# Altium footprint library Resistor.PcbLib: 34 footprints (part 2 of 3)
Each footprint in its own frame and in the unit in brackets; x right, y up, seen from the top. Pads: shape width x height; smd on the part's side, far side on the other; paste and mask are expansions set on the pad; w line width, h text height; cw(c..) or ccw(c..) is an arc to the next point about the centre after c.
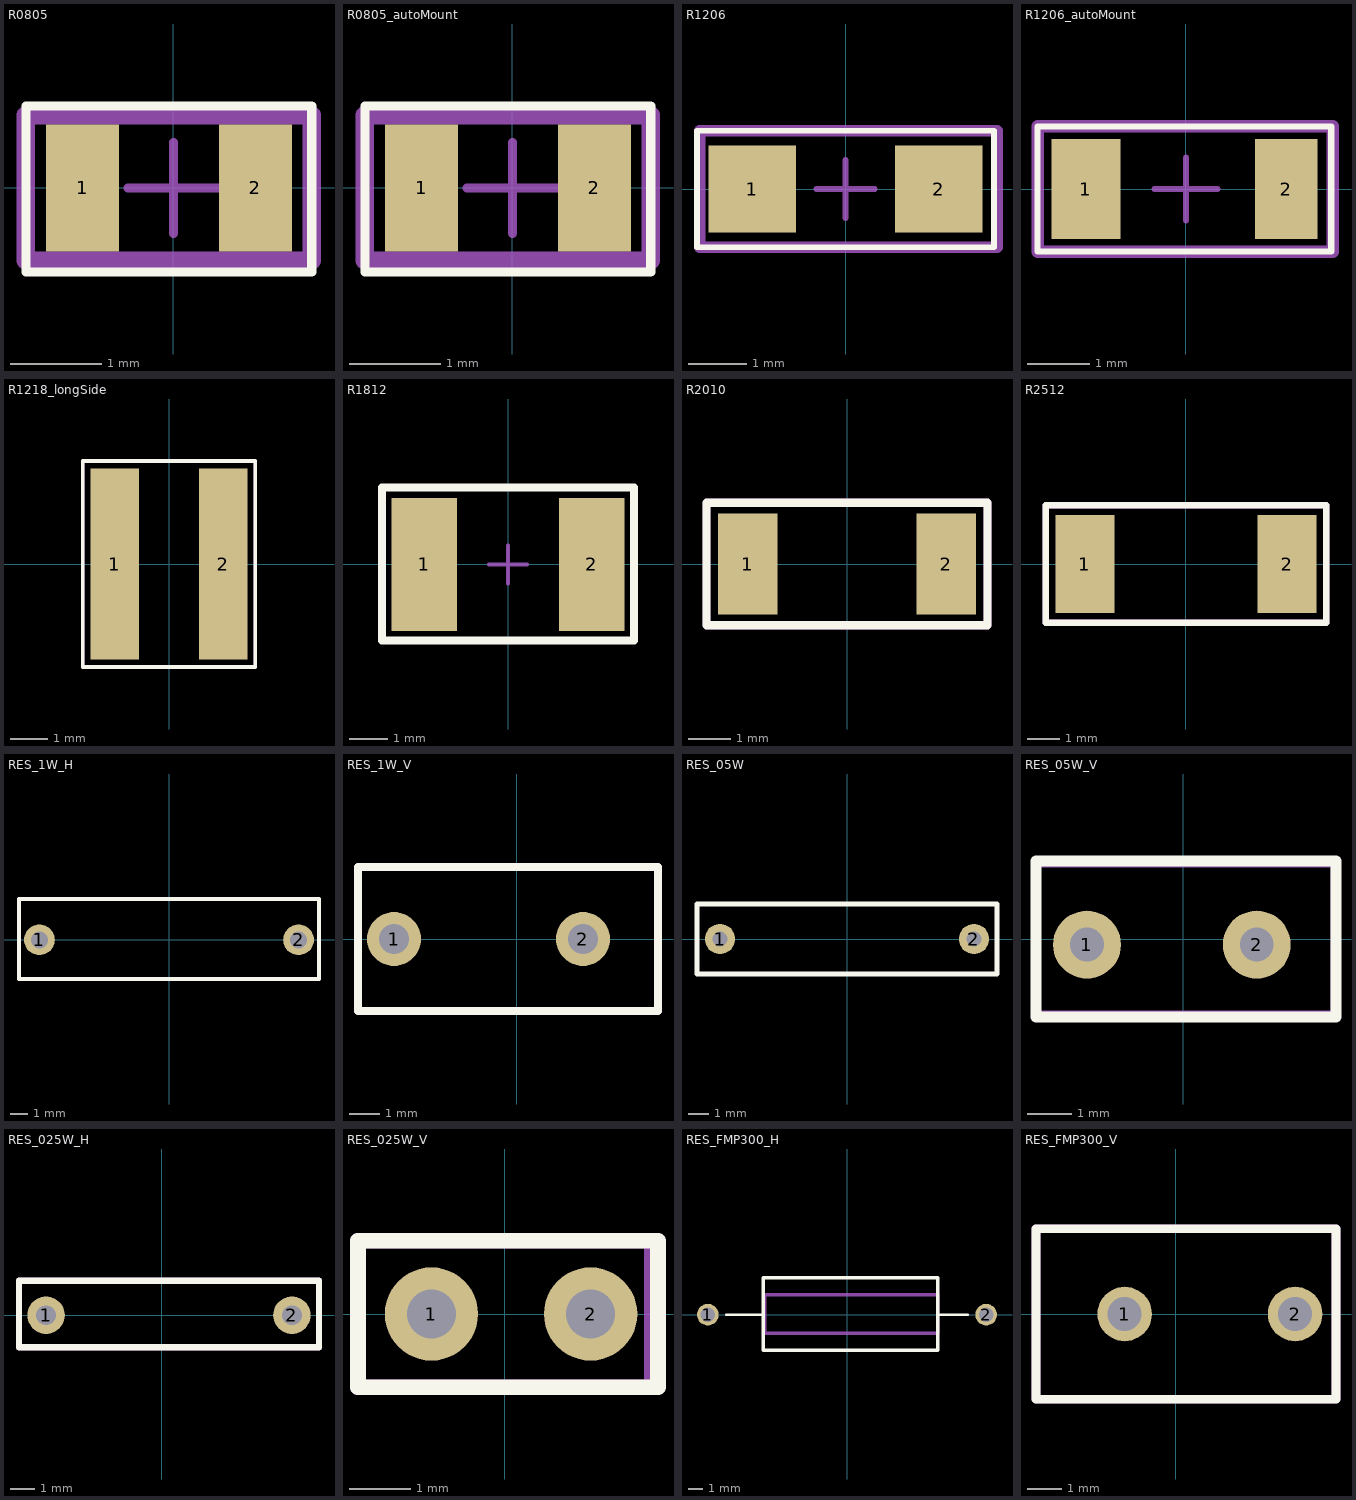
[diagram p1: the footprints below, top view; thin cyan lines are the x and y axes]

## R0805 [mm]
pads (2):
  rect 0.8x1.4 smd: 1(-1,0) 2(0.905,0)
Top Overlay:
  lines w0.1: -1.625,-0.925 1.525,-0.925 1.525,0.9 -1.625,0.9 -1.625,-0.925
ASSEMBLY_TOP:
  lines w0.2: -1.625,-0.8 -1.625,0.8 1.525,0.8 1.525,-0.8 -1.625,-0.8
  text ".Designator" at -1.5,-0.5 h1.52
Mechanical 15:
  lines w0.1: -0.5,0 0.5,0 ; 0,-0.5 0,0.5
3D body: height 0.76, standoff 0, extent -1.21,-0.675 1.09,0.675

## R0805_autoMount [mm]
pads (2):
  rect 0.8x1.4 smd: 1(-1,0) 2(0.905,0)
Top Overlay:
  lines w0.1: -1.625,-0.925 1.525,-0.925 1.525,0.9 -1.625,0.9 -1.625,-0.925
ASSEMBLY_TOP:
  lines w0.2: -1.625,-0.8 -1.625,0.8 1.525,0.8 1.525,-0.8 -1.625,-0.8
  text ".Designator" at -1.5,-0.5 h1.52
Mechanical 15:
  lines w0.1: -0.5,0 0.5,0 ; 0,-0.5 0,0.5
3D body: height 0.76, standoff 0, extent -1.21,-0.675 1.09,0.675

## R1206 [mm]
pads (2):
  rect 1.5x1.5 smd: 1(-1.6,0) 2(1.6,0)
Top Overlay:
  lines w0.1: -2.55,-1 2.55,-1 2.55,1 -2.55,1 -2.55,-1
ASSEMBLY_TOP:
  lines w0.2: -2.5,-1 2.6,-1 2.6,1 -2.5,1 -2.5,-1
  text ".Designator" at -2.1,-0.6 h1.52
Mechanical 15:
  lines w0.1: -0.5,0 0.5,0 ; 0,-0.5 0,0.5
3D body: height 0.85, standoff 0, extent -1.675,-0.865 1.675,0.865

## R1206_autoMount [mm]
pads (2):
  rect 1.1x1.6 smd: 1(-1.6,0)
  rect 1x1.6 smd: 2(1.6,0)
Top Overlay:
  lines w0.1: -2.375,-1 -2.375,1 2.325,1 2.325,-1 -2.375,-1
ASSEMBLY_TOP:
  lines w0.2: -2.375,-1 -2.375,1 2.35,1 2.35,-1 -2.375,-1
  text ".Designator" at -2.1,-0.6 h1.52
Mechanical 15:
  lines w0.1: -0.5,0 0.5,0 ; 0,-0.5 0,0.5
3D body: height 0.85, standoff 0, extent -1.675,-0.865 1.675,0.865

## R1218_longSide [mm]
pads (2):
  rect 1.3x5.1 smd: 1(-1.45,0) 2(1.45,0)
Top Overlay:
  lines w0.1: -2.3,-2.75 -2.3,2.75 2.3,2.75 2.3,-2.75 -2.3,-2.75
ASSEMBLY_TOP:
  lines w0.1: -2.3,-2.75 2.3,-2.75 2.3,2.75 -2.3,2.75 -2.3,-2.75
  text ".Designator" at -0.275,-0.15 h1.52
3D body: height 0.31, standoff -0.3, extent -1.65,-2.25 1.45,2.35

## R1812 [mm]
pads (2):
  rect 1.7x3.45 smd: 1(-2.175,0) 2(2.175,0)
Top Overlay:
  lines w0.2: -3.275,-1.975 3.275,-1.975 3.275,2 -3.275,2 -3.275,-1.975
Mechanical 15:
  lines w0.1: -0.5,0 0.5,0 ; 0,-0.5 0,0.5
3D body: height 1.6, standoff 0, extent -2.25,-1.6 2.25,1.6

## R2010 [mm]
pads (2):
  rect 1.4x2.4 smd: 1(-2.35,0) 2(2.35,0)
Top Overlay:
  lines w0.2: -3.325,-1.45 -3.325,1.45 3.325,1.45 3.325,-1.45 -3.325,-1.45
ASSEMBLY_TOP:
  lines w0.2: -3.325,-1.45 3.325,-1.45 3.325,1.45 -3.325,1.45 -3.325,-1.45
  text ".Designator" at -0.775,-0.175 h1.52
3D body: height 0.6, standoff 0, extent -2.475,-1.275 2.525,1.225

## R2512 [mm]
pads (2):
  rect 1.8x3 smd: 1(-3.1,0) 2(3.1,0)
Top Overlay:
  lines w0.2: -4.3,-1.8 4.3,-1.8 4.3,1.8 -4.3,1.8 -4.3,-1.8
ASSEMBLY_TOP:
  lines w0.2: -4.3,-1.8 -4.3,1.8 4.3,1.8 4.3,-1.8 -4.3,-1.8
  text ".Designator" at -3.5,-0.9 h1.52
3D body: height 0.6, standoff 0, extent -3.175,-1.55 3.175,1.55

## RES_1W_H [mm]
pads (2):
  round 1.8 hole 1: 1(-7.6,0) 2(7.6,0)
Top Overlay:
  lines w0.254: -8.8,-2.3 -8.8,2.4 8.8,2.4 8.8,-2.3 -8.8,-2.3
ASSEMBLY_TOP:
  lines w0.2: -8.8,-2.3 -8.8,2.4 8.8,2.4 8.8,-2.3 -8.8,-2.3
  text ".Designator" at -3.7,-0.6 h1.52
3D body: height 4.75, standoff -2.3, extent -8.02,-2.2 8.02,2.301

## RES_1W_V [mm]
pads (2):
  round 1.8 hole 1: 1(-4.1,0) 2(2.2,0)
Top Overlay:
  lines w0.254: -5.3,-2.4 -5.3,2.4 4.7,2.4 4.7,-2.4 -5.3,-2.4
ASSEMBLY_TOP:
  lines w0.2: -5.3,-2.4 4.7,-2.4 4.7,2.4 -5.3,2.4 -5.3,-2.4
  text ".Designator" at -2.9,-1.3 h1.52
3D body: height 15.15, standoff -3, extent -4.475,-2.248 4.521,2.25

## RES_05W [mil]
pads (2):
  round 60 hole 30: 1(-250,0) 2(250,0)
Top Overlay:
  lines w10: -295.28,-68.9 -295.28,68.9 295.28,68.9 295.28,-68.9 -295.28,-68.9
3D body: height 141.73, standoff -70.87, extent -257.87,-62.99 257.88,63

## RES_05W_V [mil]
pads (2):
  round 60 hole 30: 1(-85,-5) 2(65,-5)
Top Overlay:
  lines w10: -130,-68.9 -130,68.9 135,68.9 135,-68.9 -130,-68.9
ASSEMBLY_TOP:
  lines w7.87: -129.92,-66.93 133.86,-66.93 133.86,66.93 -129.92,66.93 -129.92,-66.93
  text ".Designator" at -114.17,-51.18 h60
3D body: height 498.03, standoff -118.11, extent -98.43,-66.94 126.32,59.06

## RES_025W_H [mm]
pads (2):
  round 1.524 hole 0.8: 1(-4.7,0) 2(5.3,0)
Top Overlay:
  lines w0.254: -5.8,-1.3 6.4,-1.3 6.4,1.4 -5.8,1.4 -5.8,-1.3
ASSEMBLY_TOP:
  lines w0.254: -5.8,-1.3 -5.8,1.4 6.4,1.4 6.4,-1.3 -5.8,-1.3
  text ".Designator" at -3.1,-0.3 h1.52
3D body: height 2.6, standoff -1.5, extent -5.1,-1.2 5.7,1.2

## RES_025W_V [mm]
pads (2):
  round 1.524 hole 0.8: 1(-1.2,0) 2(1.4,0)
Top Overlay:
  lines w0.254: -2.4,-1.2 -2.4,1.2 2.5,1.2 2.5,-1.2 -2.4,-1.2
ASSEMBLY_TOP:
  lines w0.254: -2.4,-1.2 2.4,-1.2 2.4,1.2 -2.4,1.2 -2.4,-1.2
  text ".Designator" at -3.1,-0.3 h1.52
3D body: height 8.3, standoff -1, extent -2.266,-1.1 1.666,1.163

## RES_FMP300_H [mm]
pads (2):
  round 1.524 hole 1: 1(-9.8,0) 2(9.8,0)
Top Overlay:
  lines w0.2: -8.5,0 -5.9,0 ; 6.4,0 8.5,0
  lines w0.254: -5.9,-2.5 6.4,-2.5 6.4,2.6 -5.9,2.6 -5.9,-2.5
ASSEMBLY_TOP:
  lines w0.254: -5.8,-1.3 -5.8,1.4 6.4,1.4 6.4,-1.3 -5.8,-1.3
  text ".Designator" at -3.1,-0.3 h1.52
3D body: height 5.48, standoff -3, extent -10.148,-2.49 10.148,2.5

## RES_FMP300_V [mm]
pads (2):
  round 1.6 hole 1: 1(-1.5,0) 2(3.5,0)
Top Overlay:
  lines w0.254: -4.1,-2.5 4.7,-2.5 4.7,2.5 -4.1,2.5 -4.1,-2.5
ASSEMBLY_TOP:
  lines w0.254: -4.1,-2.5 -4.1,2.5 4.7,2.5 4.7,-2.5 -4.1,-2.5
  text ".Designator" at -3.1,-0.3 h1.52
3D body: height 18.9, standoff -3, extent -3.977,-2.495 3.9,2.495